# Altium footprint library CS_footprints.PcbLib: 90 footprints (part 6 of 6)
Each footprint in its own frame and in the unit in brackets; x right, y up, seen from the top. Pads: shape width x height; smd on the part's side, far side on the other; paste and mask are expansions set on the pad; w line width, h text height; cw(c..) or ccw(c..) is an arc to the next point about the centre after c.
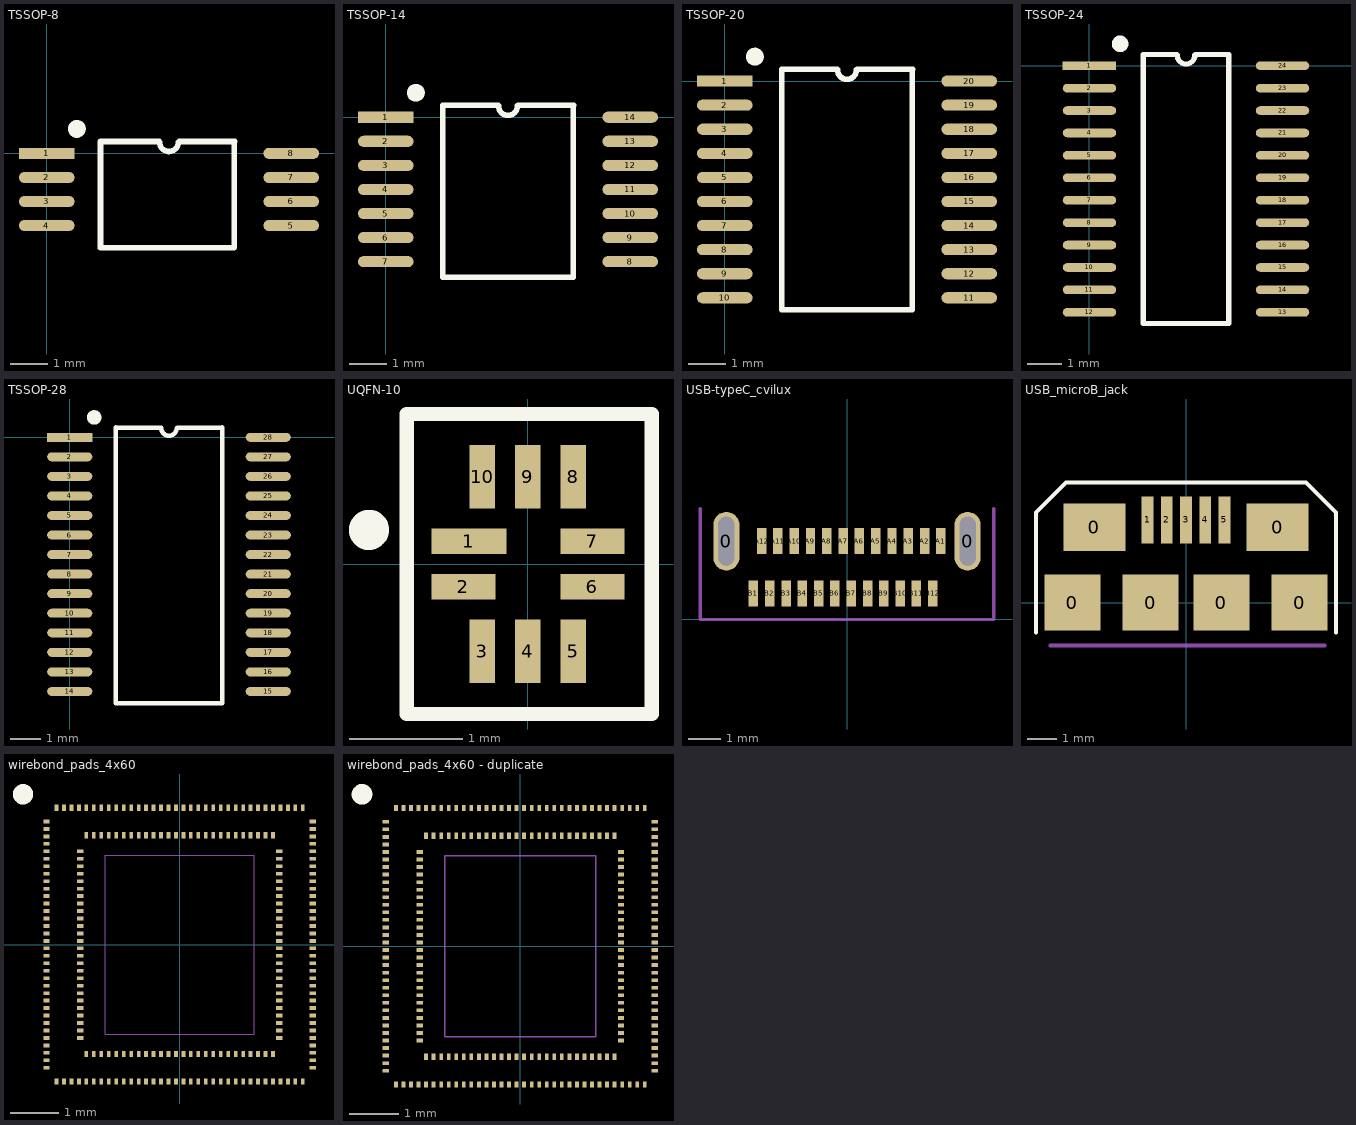
[diagram p5: the footprints below, top view; thin cyan lines are the x and y axes]

## TSSOP-8 [mm]
pads (8):
  rect 1.5x0.3 smd: 1(0,0)
  oval 1.5x0.3 smd: 2(0,-0.65) 3(0,-1.3) 4(0,-1.95) 5(6.6,-1.95) 6(6.6,-1.3) 7(6.6,-0.65) 8(6.6,0)
Top Overlay:
  circle w0.254: c0.813,0.66 r0.114
  lines w0.15: 3.04,0.32 1.45,0.32 1.45,-2.55 5.05,-2.55 5.065,-2.535 5.065,0.325 ; 3.043,0.304 ccw(c3.298,0.305) 3.554,0.304 ; 3.58,0.32 5.07,0.32

## TSSOP-14 [mm]
pads (14):
  rect 1.5x0.3 smd: 1(0,0)
  oval 1.5x0.3 smd: 2(0,-0.65) 3(0,-1.3) 4(0,-1.95) 5(0,-2.6) 6(0,-3.25) 7(0,-3.9) 8(6.6,-3.9) 9(6.6,-3.25) 10(6.6,-2.6) 11(6.6,-1.95) 12(6.6,-1.3) 13(6.6,-0.65) 14(6.6,0)
Top Overlay:
  circle w0.254: c0.813,0.66 r0.114
  lines w0.15: 1.535,0.325 1.535,-4.318 5.065,-4.318 5.065,0.325 ; 1.54,0.32 3.04,0.32 ; 3.043,0.304 ccw(c3.298,0.305) 3.554,0.304 ; 3.58,0.32 5.07,0.32

## TSSOP-20 [mm]
pads (20):
  rect 1.5x0.3 smd: 1(0,0)
  oval 1.5x0.3 smd: 2(0,-0.65) 3(0,-1.3) 4(0,-1.95) 5(0,-2.6) 6(0,-3.25) 7(0,-3.9) 8(0,-4.55) 9(0,-5.2) 10(0,-5.85) 11(6.6,-5.85) 12(6.6,-5.2) 13(6.6,-4.55) 14(6.6,-3.9) 15(6.6,-3.25) 16(6.6,-2.6) 17(6.6,-1.95) 18(6.6,-1.3) 19(6.6,-0.65) 20(6.6,0)
Top Overlay:
  circle w0.254: c0.813,0.66 r0.114
  lines w0.15: 1.535,0.325 1.535,-6.175 5.065,-6.175 5.065,0.325 ; 1.54,0.32 3.04,0.32 ; 3.043,0.304 ccw(c3.298,0.305) 3.554,0.304 ; 3.58,0.32 5.07,0.32

## TSSOP-24 [mm]
pads (24):
  rect 1.55x0.25 smd: 1(0,0)
  oval 1.55x0.25 smd: 2(0,-0.65) 3(0,-1.3) 4(0,-1.95) 5(0,-2.6) 6(0,-3.25) 7(0,-3.9) 8(0,-4.55) 9(0,-5.2) 10(0,-5.85) 11(0,-6.5) 12(0,-7.15) 13(5.6,-7.15) 14(5.6,-6.5) 15(5.6,-5.85) 16(5.6,-5.2) 17(5.6,-4.55) 18(5.6,-3.9) 19(5.6,-3.25) 20(5.6,-2.6) 21(5.6,-1.95) 22(5.6,-1.3) 23(5.6,-0.65) 24(5.6,0)
Top Overlay:
  circle w0.254: c0.889,0.635 r0.114
  lines w0.15: 2.54,0.325 1.56,0.325 1.56,-7.475 4.04,-7.475 4.04,0.33 ; 2.545,0.305 ccw(c2.8,0.306) 3.056,0.305 ; 3.073,0.33 4.039,0.33

## TSSOP-28 [mm]
pads (28):
  rect 1.5x0.3 smd: 1(0,0)
  oval 1.5x0.3 smd: 2(0,-0.65) 3(0,-1.3) 4(0,-1.95) 5(0,-2.6) 6(0,-3.25) 7(0,-3.9) 8(0,-4.55) 9(0,-5.2) 10(0,-5.85) 11(0,-6.5) 12(0,-7.15) 13(0,-7.8) 14(0,-8.45) 15(6.6,-8.45) 16(6.6,-7.8) 17(6.6,-7.15) 18(6.6,-6.5) 19(6.6,-5.85) 20(6.6,-5.2) 21(6.6,-4.55) 22(6.6,-3.9) 23(6.6,-3.25) 24(6.6,-2.6) 25(6.6,-1.95) 26(6.6,-1.3) 27(6.6,-0.65) 28(6.6,0)
Top Overlay:
  circle w0.254: c0.813,0.66 r0.114
  lines w0.15: 1.535,0.325 1.535,-8.85 5.065,-8.85 5.065,0.325 ; 1.54,0.32 3.04,0.32 ; 3.043,0.304 ccw(c3.298,0.305) 3.554,0.304 ; 3.58,0.32 5.07,0.32

## UQFN-10 [mm]
pads (10):
  rect 0.663x0.225 smd: 1(-0.519,0.2)
  rect 0.563x0.225 smd: 2(-0.569,-0.2) 6(0.569,-0.2) 7(0.569,0.2)
  rect 0.225x0.563 smd: 3(-0.4,-0.768) 4(0,-0.768) 5(0.4,-0.768) 8(0.4,0.768) 9(0,0.768) 10(-0.4,0.768)
Top Overlay:
  circle w0.254: c-1.4,0.3 r0.05
  lines w0.127: -1.067,-1.321 1.092,-1.321 1.092,1.321 -1.067,1.321 -1.067,-1.321
Top Solder:
  rectangle: -1,-1.2 1.1,1.2

## USB-typeC_cvilux [mm]
pads (26):
  oval 0.8x1.8 hole 0.5 slot 1.5 at 90 deg: 0(-3.7,2.4) 0(3.7,2.4)
  rect 0.29x0.8 smd mask+0.051: A1(2.88,2.4) A2(2.38,2.4) A3(1.88,2.4) A4(1.38,2.4) A5(0.88,2.4) A6(0.38,2.4) A7(-0.12,2.4) A8(-0.62,2.4) A9(-1.12,2.4) A10(-1.62,2.4) A11(-2.12,2.4) A12(-2.62,2.4) B1(-2.87,0.8) B2(-2.37,0.8) B3(-1.87,0.8) B4(-1.37,0.8) B5(-0.87,0.8) B6(-0.37,0.8) B7(0.13,0.8) B8(0.63,0.8) B9(1.13,0.8) B10(1.63,0.8) B11(2.13,0.8) B12(2.63,0.8)
Assembly Top:
  lines w0.102: -4.5,3.4 -4.5,0 4.5,0 4.5,3.4

## USB_microB_jack [mm] "pcb mount USB micro B jack"
pads (11):
  rect 1.9x1.9 smd: 0(-3.85,0) 0(-1.2,0) 0(1.2,0) 0(3.85,0)
  rect 2.1x1.6 smd: 0(-3.1,2.55) 0(3.1,2.55)
  rect 0.4x1.6 smd: 1(-1.3,2.8) 2(-0.65,2.8) 3(0,2.8) 4(0.65,2.8) 5(1.3,2.8)
Top Overlay:
  lines w0.127: -5.08,-1.016 -5.08,3.048 -4.064,4.064 4.064,4.064 5.08,3.048 5.08,-1.016
3D Top:
  lines w0.127: -4.6,-1.45 4.7,-1.45

## wirebond_pads_4x60 [mil] "group of 4x60 wirebond pads 5mil wide, 3mil high, 3mil spacing"
pads (240):
  rect 5x3 smd paste+0 mask+0: 1(-107,99) 2(-107,93) 3(-107,87) 4(-107,81) 5(-107,75) 6(-80,75) 7(-107,69) 8(-80,69) 9(-107,63) 10(-80,63) 11(-107,57) 12(-80,57) 13(-107,51) 14(-80,51) 15(-107,45) 16(-80,45) 17(-107,39) 18(-80,39) 19(-107,33) 20(-80,33) 21(-107,27) 22(-80,27) 23(-107,21) 24(-80,21) 25(-107,15) 26(-80,15) 27(-107,9) 28(-80,9) 29(-107,3) 30(-80,3) 31(-107,-3) 32(-80,-3) 33(-107,-9) 34(-80,-9) 35(-107,-15) 36(-80,-15) 37(-107,-21) 38(-80,-21) 39(-107,-27) 40(-80,-27) 41(-107,-33) 42(-80,-33) 43(-107,-39) 44(-80,-39) 45(-107,-45) 46(-80,-45) 47(-107,-51) 48(-80,-51) 49(-107,-57) 50(-80,-57) 51(-107,-63) 52(-80,-63) 53(-107,-69) 54(-80,-69) 55(-107,-75) 56(-80,-75) 57(-107,-81) 58(-107,-87) 59(-107,-93) 60(-107,-99)
  rect 3x5 smd: 61(-99,-110) 62(-93,-110) 63(-87,-110) 64(-81,-110) 65(-75,-110) 66(-75,-88) 67(-69,-110) 68(-69,-88) 69(-63,-110) 70(-63,-88) 71(-57,-110) 72(-57,-88) 73(-51,-110) 74(-51,-88) 75(-45,-110) 76(-45,-88) 77(-39,-110) 78(-39,-88) 79(-33,-110) 80(-33,-88) 81(-27,-110) 82(-27,-88) 83(-21,-110) 84(-21,-88) 85(-15,-110) 86(-15,-88) 87(-9,-110) 88(-9,-88) 89(-3,-110) 90(-3,-88) 91(3,-110) 92(3,-88) 93(9,-110) 94(9,-88) 95(15,-110) 96(15,-88) 97(21,-110) 98(21,-88) 99(27,-110) 100(27,-88) 101(33,-110) 102(33,-88) 103(39,-110) 104(39,-88) 105(45,-110) 106(45,-88) 107(51,-110) 108(51,-88) 109(57,-110) 110(57,-88) 111(63,-110) 112(63,-88) 113(69,-110) 114(69,-88) 115(75,-110) 116(75,-88) 117(81,-110) 118(87,-110) 119(93,-110) 120(99,-110) 181(99,110) 182(93,110) 183(87,110) 184(81,110) 185(75,110) 186(75,88) 187(69,110) 188(69,88) 189(63,110) 190(63,88) 191(57,110) 192(57,88) 193(51,110) 194(51,88) 195(45,110) 196(45,88) 197(39,110) 198(39,88) 199(33,110) 200(33,88) 201(27,110) 202(27,88) 203(21,110) 204(21,88) 205(15,110) 206(15,88) 207(9,110) 208(9,88) 209(3,110) 210(3,88) 211(-3,110) 212(-3,88) 213(-9,110) 214(-9,88) 215(-15,110) 216(-15,88) 217(-21,110) 218(-21,88) 219(-27,110) 220(-27,88) 221(-33,110) 222(-33,88) 223(-39,110) 224(-39,88) 225(-45,110) 226(-45,88) 227(-51,110) 228(-51,88) 229(-57,110) 230(-57,88) 231(-63,110) 232(-63,88) 233(-69,110) 234(-69,88) 235(-75,110) 236(-75,88) 237(-81,110) 238(-87,110) 239(-93,110) 240(-99,110)
  rect 5x3 smd: 121(107,-99) 122(107,-93) 123(107,-87) 124(107,-81) 125(107,-75) 126(80,-75) 127(107,-69) 128(80,-69) 129(107,-63) 130(80,-63) 131(107,-57) 132(80,-57) 133(107,-51) 134(80,-51) 135(107,-45) 136(80,-45) 137(107,-39) 138(80,-39) 139(107,-33) 140(80,-33) 141(107,-27) 142(80,-27) 143(107,-21) 144(80,-21) 145(107,-15) 146(80,-15) 147(107,-9) 148(80,-9) 149(107,-3) 150(80,-3) 151(107,3) 152(80,3) 153(107,9) 154(80,9) 155(107,15) 156(80,15) 157(107,21) 158(80,21) 159(107,27) 160(80,27) 161(107,33) 162(80,33) 163(107,39) 164(80,39) 165(107,45) 166(80,45) 167(107,51) 168(80,51) 169(107,57) 170(80,57) 171(107,63) 172(80,63) 173(107,69) 174(80,69) 175(107,75) 176(80,75) 177(107,81) 178(107,87) 179(107,93) 180(107,99)
Top Overlay:
  circle w10: c-125.98,120.87 r3.17
Top Solder:
  rectangle: -112,-115 112,115
Courtyard Top:
  lines w1: -60,-72 -60,72 60,72 60,-72 -60,-72

## wirebond_pads_4x60 - duplicate [mil] "group of 4x60 wirebond pads 5mil wide, 3mil high, 3mil spacing"
pads (240):
  rect 5x3 smd paste+0 mask+0: 1(-107,99) 2(-107,93) 3(-107,87) 4(-107,81) 5(-107,75) 6(-80,75) 7(-107,69) 8(-80,69) 9(-107,63) 10(-80,63) 11(-107,57) 12(-80,57) 13(-107,51) 14(-80,51) 15(-107,45) 16(-80,45) 17(-107,39) 18(-80,39) 19(-107,33) 20(-80,33) 21(-107,27) 22(-80,27) 23(-107,21) 24(-80,21) 25(-107,15) 26(-80,15) 27(-107,9) 28(-80,9) 29(-107,3) 30(-80,3) 31(-107,-3) 32(-80,-3) 33(-107,-9) 34(-80,-9) 35(-107,-15) 36(-80,-15) 37(-107,-21) 38(-80,-21) 39(-107,-27) 40(-80,-27) 41(-107,-33) 42(-80,-33) 43(-107,-39) 44(-80,-39) 45(-107,-45) 46(-80,-45) 47(-107,-51) 48(-80,-51) 49(-107,-57) 50(-80,-57) 51(-107,-63) 52(-80,-63) 53(-107,-69) 54(-80,-69) 55(-107,-75) 56(-80,-75) 57(-107,-81) 58(-107,-87) 59(-107,-93) 60(-107,-99)
  rect 3x5 smd: 61(-99,-110) 62(-93,-110) 63(-87,-110) 64(-81,-110) 65(-75,-110) 66(-75,-88) 67(-69,-110) 68(-69,-88) 69(-63,-110) 70(-63,-88) 71(-57,-110) 72(-57,-88) 73(-51,-110) 74(-51,-88) 75(-45,-110) 76(-45,-88) 77(-39,-110) 78(-39,-88) 79(-33,-110) 80(-33,-88) 81(-27,-110) 82(-27,-88) 83(-21,-110) 84(-21,-88) 85(-15,-110) 86(-15,-88) 87(-9,-110) 88(-9,-88) 89(-3,-110) 90(-3,-88) 91(3,-110) 92(3,-88) 93(9,-110) 94(9,-88) 95(15,-110) 96(15,-88) 97(21,-110) 98(21,-88) 99(27,-110) 100(27,-88) 101(33,-110) 102(33,-88) 103(39,-110) 104(39,-88) 105(45,-110) 106(45,-88) 107(51,-110) 108(51,-88) 109(57,-110) 110(57,-88) 111(63,-110) 112(63,-88) 113(69,-110) 114(69,-88) 115(75,-110) 116(75,-88) 117(81,-110) 118(87,-110) 119(93,-110) 120(99,-110) 181(99,110) 182(93,110) 183(87,110) 184(81,110) 185(75,110) 186(75,88) 187(69,110) 188(69,88) 189(63,110) 190(63,88) 191(57,110) 192(57,88) 193(51,110) 194(51,88) 195(45,110) 196(45,88) 197(39,110) 198(39,88) 199(33,110) 200(33,88) 201(27,110) 202(27,88) 203(21,110) 204(21,88) 205(15,110) 206(15,88) 207(9,110) 208(9,88) 209(3,110) 210(3,88) 211(-3,110) 212(-3,88) 213(-9,110) 214(-9,88) 215(-15,110) 216(-15,88) 217(-21,110) 218(-21,88) 219(-27,110) 220(-27,88) 221(-33,110) 222(-33,88) 223(-39,110) 224(-39,88) 225(-45,110) 226(-45,88) 227(-51,110) 228(-51,88) 229(-57,110) 230(-57,88) 231(-63,110) 232(-63,88) 233(-69,110) 234(-69,88) 235(-75,110) 236(-75,88) 237(-81,110) 238(-87,110) 239(-93,110) 240(-99,110)
  rect 5x3 smd: 121(107,-99) 122(107,-93) 123(107,-87) 124(107,-81) 125(107,-75) 126(80,-75) 127(107,-69) 128(80,-69) 129(107,-63) 130(80,-63) 131(107,-57) 132(80,-57) 133(107,-51) 134(80,-51) 135(107,-45) 136(80,-45) 137(107,-39) 138(80,-39) 139(107,-33) 140(80,-33) 141(107,-27) 142(80,-27) 143(107,-21) 144(80,-21) 145(107,-15) 146(80,-15) 147(107,-9) 148(80,-9) 149(107,-3) 150(80,-3) 151(107,3) 152(80,3) 153(107,9) 154(80,9) 155(107,15) 156(80,15) 157(107,21) 158(80,21) 159(107,27) 160(80,27) 161(107,33) 162(80,33) 163(107,39) 164(80,39) 165(107,45) 166(80,45) 167(107,51) 168(80,51) 169(107,57) 170(80,57) 171(107,63) 172(80,63) 173(107,69) 174(80,69) 175(107,75) 176(80,75) 177(107,81) 178(107,87) 179(107,93) 180(107,99)
Top Overlay:
  circle w10: c-125.98,120.87 r3.17
Courtyard Top:
  lines w1: -60,-72 -60,72 60,72 60,-72 -60,-72